# Altium integrated library DWM-04-60-G-S-625.IntLib: 1 symbol
Pins are listed as number, name and electrical type; pins without a type are passive.

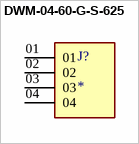
[diagram p0: symbol DWM-04-60-G-S-625]

## DWM-04-60-G-S-625
designator J?
CONN BRD STACK .050 4POS; MF: Samtec; MP: DWM-04-60-G-S-625; SnapEDA_Link: https://www.snapeda.com/parts/DWM-04-60-G-S-625/Samtec/view-part/?ref=snap; Package: None; Value: *; Check_prices: https://www.snapeda.com/parts/DWM-04-60-G-S-625/Samtec/view-part/?ref=eda
footprint SAMTEC_DWM-04-60-G-S-625
pins: 01, 02, 03, 04